# Altium integrated library memory-motorola-dram.IntLib: 16 symbols
Pins are listed as number, name and electrical type; pins without a type are passive.

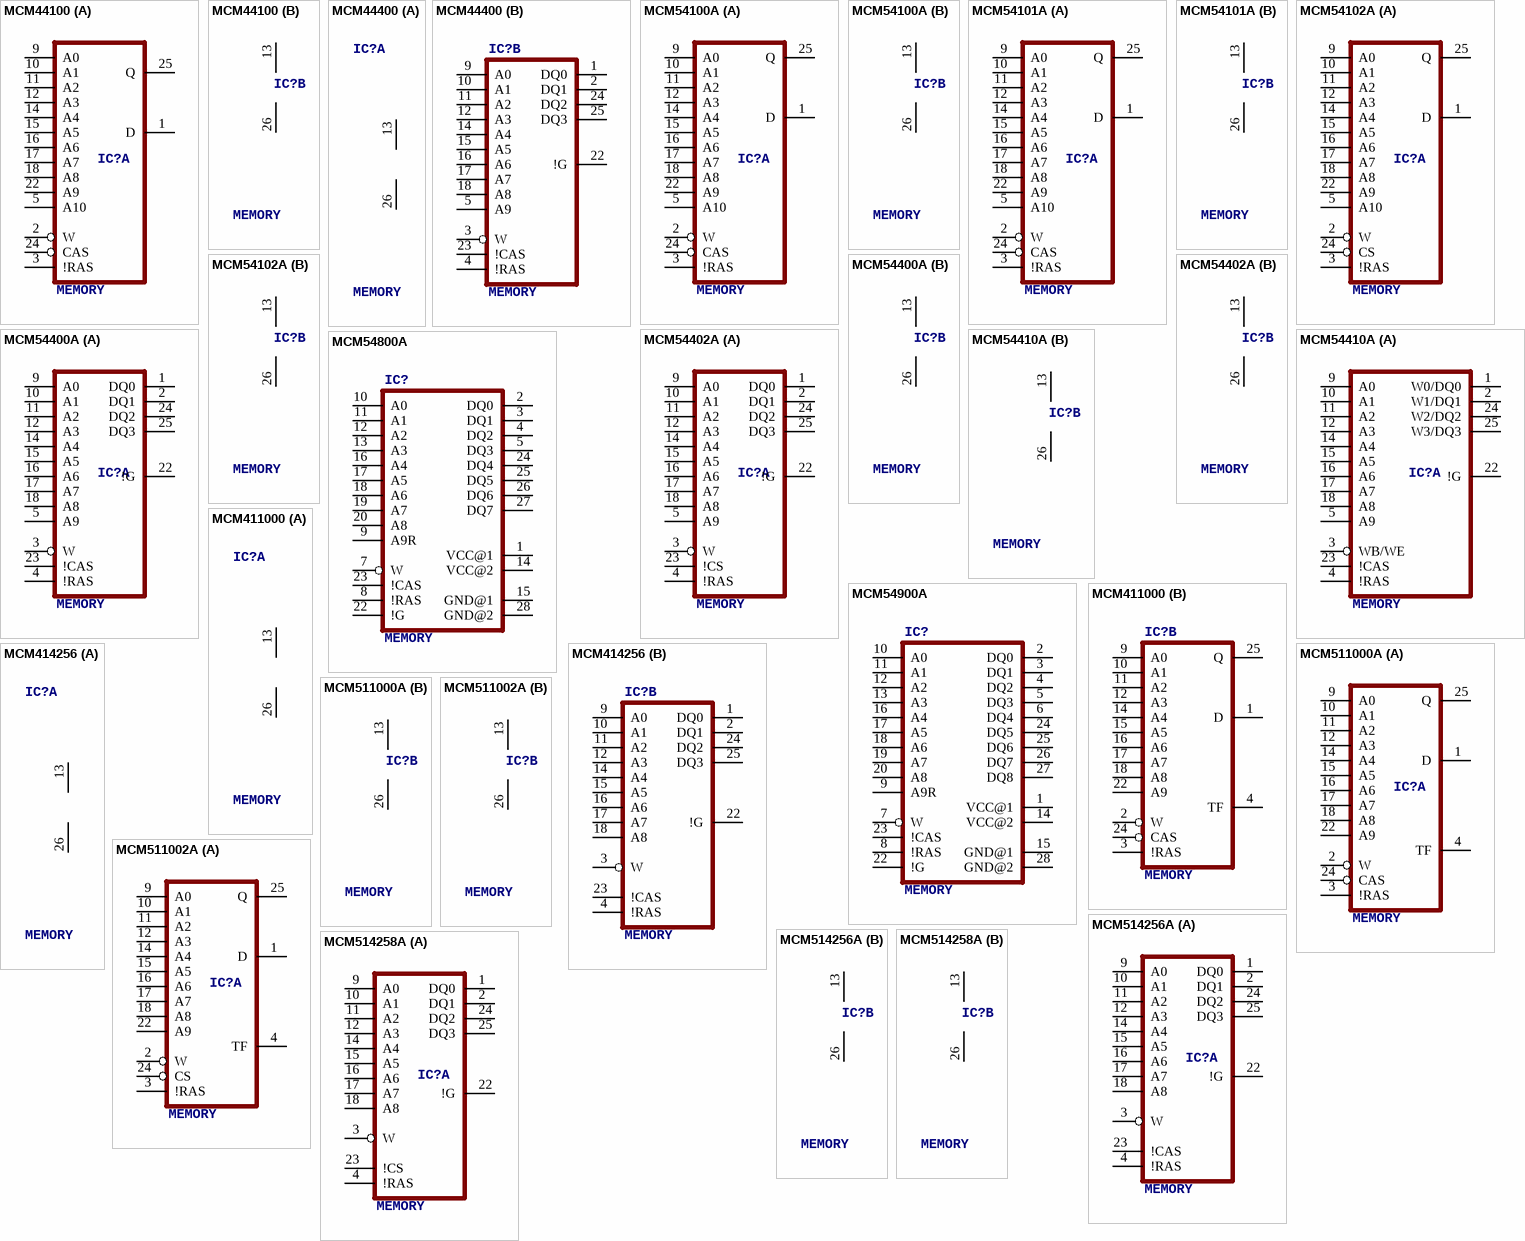
[diagram p0: symbols MCM44100 to MCM514258A]

## MCM44100
designator IC?, comment MEMORY
OC_FARNELL: unknown; OC_NEWARK: unknown
footprint SOJ26-20
part A pins: 1 D, 2 W, 3 !RAS, 5 A10, 9 A0, 10 A1, 11 A2, 12 A3, 14 A4, 15 A5, 16 A6, 17 A7, 18 A8, 22 A9, 24 CAS, 25 Q (hiz)
part B pins: 13 VCC (power), 26 GND (power)

## MCM44400
designator IC?, comment MEMORY
OC_FARNELL: unknown; OC_NEWARK: unknown
footprint SOJ26-20
part A pins: 13 VCC (power), 26 GND (power)
part B pins: 1 DQ0, 2 DQ1, 3 W, 4 !RAS, 5 A9, 9 A0, 10 A1, 11 A2, 12 A3, 14 A4, 15 A5, 16 A6, 17 A7, 18 A8, 22 !G, 23 !CAS, 24 DQ2, 25 DQ3

## MCM54100A
designator IC?, comment MEMORY
OC_FARNELL: unknown; OC_NEWARK: unknown
footprint SOJ26-20
part A pins: 1 D, 2 W, 3 !RAS, 5 A10, 9 A0, 10 A1, 11 A2, 12 A3, 14 A4, 15 A5, 16 A6, 17 A7, 18 A8, 22 A9, 24 CAS, 25 Q (hiz)
part B pins: 13 VCC (power), 26 GND (power)

## MCM54101A
designator IC?, comment MEMORY
OC_FARNELL: unknown; OC_NEWARK: unknown
footprint SOJ26-20
part A pins: 1 D, 2 W, 3 !RAS, 5 A10, 9 A0, 10 A1, 11 A2, 12 A3, 14 A4, 15 A5, 16 A6, 17 A7, 18 A8, 22 A9, 24 CAS, 25 Q (hiz)
part B pins: 13 VCC (power), 26 GND (power)

## MCM54102A
designator IC?, comment MEMORY
OC_FARNELL: unknown; OC_NEWARK: unknown
footprint SOJ26-20
part A pins: 1 D, 2 W, 3 !RAS, 5 A10, 9 A0, 10 A1, 11 A2, 12 A3, 14 A4, 15 A5, 16 A6, 17 A7, 18 A8, 22 A9, 24 CS, 25 Q (hiz)
part B pins: 13 VCC (power), 26 GND (power)

## MCM54400A
designator IC?, comment MEMORY
OC_FARNELL: unknown; OC_NEWARK: unknown
footprint SOJ26-20
part A pins: 1 DQ0, 2 DQ1, 3 W, 4 !RAS, 5 A9, 9 A0, 10 A1, 11 A2, 12 A3, 14 A4, 15 A5, 16 A6, 17 A7, 18 A8, 22 !G, 23 !CAS, 24 DQ2, 25 DQ3
part B pins: 13 VCC (power), 26 GND (power)

## MCM54402A
designator IC?, comment MEMORY
OC_FARNELL: unknown; OC_NEWARK: unknown
footprint SOJ26-20
part A pins: 1 DQ0, 2 DQ1, 3 W, 4 !RAS, 5 A9, 9 A0, 10 A1, 11 A2, 12 A3, 14 A4, 15 A5, 16 A6, 17 A7, 18 A8, 22 !G, 23 !CS, 24 DQ2, 25 DQ3
part B pins: 13 VCC (power), 26 GND (power)

## MCM54410A
designator IC?, comment MEMORY
OC_FARNELL: unknown; OC_NEWARK: unknown
footprint SOJ26-20
part A pins: 1 W0/DQ0, 2 W1/DQ1, 3 WB/WE, 4 !RAS, 5 A9, 9 A0, 10 A1, 11 A2, 12 A3, 14 A4, 15 A5, 16 A6, 17 A7, 18 A8, 22 !G, 23 !CAS, 24 W2/DQ2, 25 W3/DQ3
part B pins: 13 VCC (power), 26 GND (power)

## MCM54800A
designator IC?, comment MEMORY
OC_FARNELL: unknown; OC_NEWARK: unknown
footprint SOJ28-4
pins: 1 VCC@1 (power), 2 DQ0, 3 DQ1, 4 DQ2, 5 DQ3, 7 W, 8 !RAS, 9 A9R, 10 A0, 11 A1, 12 A2, 13 A3, 14 VCC@2 (power), 15 GND@1 (power), 16 A4, 17 A5, 18 A6, 19 A7, 20 A8, 22 !G, 23 !CAS, 24 DQ4, 25 DQ5, 26 DQ6, 27 DQ7, 28 GND@2 (power)

## MCM54900A
designator IC?, comment MEMORY
OC_FARNELL: unknown; OC_NEWARK: unknown
footprint SOJ28-4
pins: 1 VCC@1 (power), 2 DQ0, 3 DQ1, 4 DQ2, 5 DQ3, 6 DQ4, 7 W, 8 !RAS, 9 A9R, 10 A0, 11 A1, 12 A2, 13 A3, 14 VCC@2 (power), 15 GND@1 (power), 16 A4, 17 A5, 18 A6, 19 A7, 20 A8, 22 !G, 23 !CAS, 24 DQ5, 25 DQ6, 26 DQ7, 27 DQ8, 28 GND@2 (power)

## MCM411000
designator IC?, comment MEMORY
OC_FARNELL: unknown; OC_NEWARK: unknown
footprint SOJ26-20
part A pins: 13 VCC (power), 26 GND (power)
part B pins: 1 D, 2 W, 3 !RAS, 4 TF, 9 A0, 10 A1, 11 A2, 12 A3, 14 A4, 15 A5, 16 A6, 17 A7, 18 A8, 22 A9, 24 CAS, 25 Q (hiz)

## MCM414256
designator IC?, comment MEMORY
OC_FARNELL: unknown; OC_NEWARK: unknown
footprint SOJ26-20
part A pins: 13 VCC (power), 26 GND (power)
part B pins: 1 DQ0, 2 DQ1, 3 W, 4 !RAS, 9 A0, 10 A1, 11 A2, 12 A3, 14 A4, 15 A5, 16 A6, 17 A7, 18 A8, 22 !G, 23 !CAS, 24 DQ2, 25 DQ3

## MCM511000A
designator IC?, comment MEMORY
OC_FARNELL: unknown; OC_NEWARK: unknown
footprint SOJ26-20
part A pins: 1 D, 2 W, 3 !RAS, 4 TF, 9 A0, 10 A1, 11 A2, 12 A3, 14 A4, 15 A5, 16 A6, 17 A7, 18 A8, 22 A9, 24 CAS, 25 Q (hiz)
part B pins: 13 VCC (power), 26 GND (power)

## MCM511002A
designator IC?, comment MEMORY
OC_FARNELL: unknown; OC_NEWARK: unknown
footprint SOJ26-20
part A pins: 1 D, 2 W, 3 !RAS, 4 TF, 9 A0, 10 A1, 11 A2, 12 A3, 14 A4, 15 A5, 16 A6, 17 A7, 18 A8, 22 A9, 24 CS, 25 Q (hiz)
part B pins: 13 VCC (power), 26 GND (power)

## MCM514256A
designator IC?, comment MEMORY
OC_FARNELL: unknown; OC_NEWARK: unknown
footprint SOJ26-20
part A pins: 1 DQ0, 2 DQ1, 3 W, 4 !RAS, 9 A0, 10 A1, 11 A2, 12 A3, 14 A4, 15 A5, 16 A6, 17 A7, 18 A8, 22 !G, 23 !CAS, 24 DQ2, 25 DQ3
part B pins: 13 VCC (power), 26 GND (power)

## MCM514258A
designator IC?, comment MEMORY
OC_FARNELL: unknown; OC_NEWARK: unknown
footprint SOJ26-20
part A pins: 1 DQ0, 2 DQ1, 3 W, 4 !RAS, 9 A0, 10 A1, 11 A2, 12 A3, 14 A4, 15 A5, 16 A6, 17 A7, 18 A8, 22 !G, 23 !CS, 24 DQ2, 25 DQ3
part B pins: 13 VCC (power), 26 GND (power)